# Altium integrated library PAT Relays Board.IntLib: 4 symbols
Pins are listed as number, name and electrical type; pins without a type are passive.

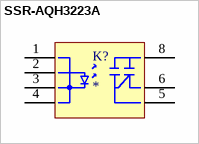
[diagram p0: symbol SSR-AQH3223A]

## SSR-AQH3223A
designator K?
SSR SPST 1.2A 0~600V; Digi-Key Part Number: 255-2663-ND
footprint AQH3223A (SSR SPST, 1.2A 0~600V)
pins: 1 -, 2 +, 3 -, 4 -, 5, 6, 8


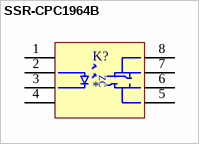
[diagram p1: symbol SSR-CPC1964B]

## SSR-CPC1964B
designator K?
Relay SSR SPST 1.5A 0~800V; Digi-Key Part Number: CLA413-ND
footprint CPC1964B (SSR SPST, 1.5A 0~800V)
pins: 1 NC, 2 LED+, 3 LED-, 4 NC, 5, 6, 7, 8
text: ZC


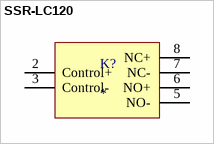
[diagram p2: symbol SSR-LC120]

## SSR-LC120
designator K?
Relay SSR SPDT; Digi-Key Part Number: CLA254CT-ND
footprint LCC120S (SSR Relay SPDT Form C, 170mA 0~250V)
pins: 2 Control+, 3 Control-, 5 NO-, 6 NO+, 7 NC-, 8 NC+


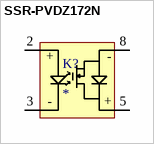
[diagram p3: symbol SSR-PVDZ172N]

## SSR-PVDZ172N
designator K?
Relay SSR SPST 1.5A 0~60 V; Digi-Key Part Number: PVAZ172NSPBF-ND
footprint PVDZ172N (SSR SPST 1.5A 0~60 V)
pins: 2, 3, 5, 8
text: +; -